# EAGLE library part IP175 (library ic-plus)
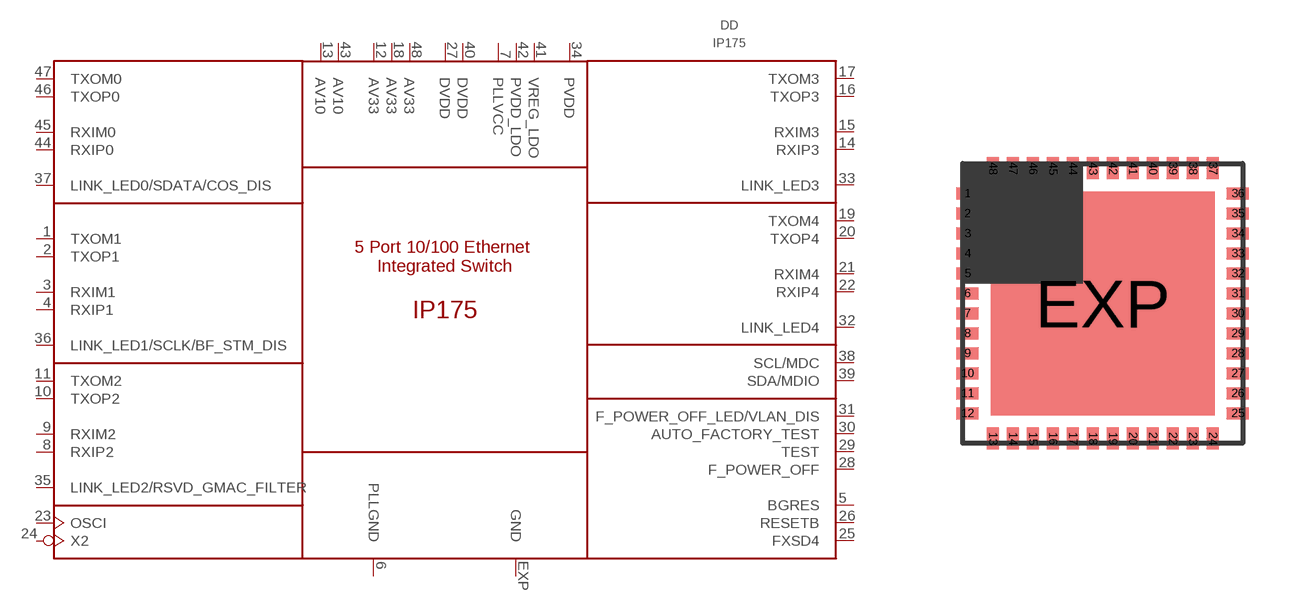
[diagram p0: symbol with the pads of QFN48; footprint QFN48]

Designator prefix DD

## IP175  [QFN48]
1  TXOM1  out
2  TXOP1  out
3  RXIM1  in
4  RXIP1  in
5  BGRES  pas
6  PLLGND  pwr
7  PLLVCC  pwr
8  RXIP2  in
9  RXIM2  in
10  TXOP2  out
11  TXOM2  out
12  AV33  pwr
13  AV10  pwr
14  RXIP3  in
15  RXIM3  in
16  TXOP3  out
17  TXOM3  out
18  AV33  pwr
19  TXOM4  out
20  TXOP4  out
21  RXIM4  in
22  RXIP4  in
23  OSCI  in
24  X2  in
25  FXSD4  in
26  RESETB  in
27  DVDD  pwr
28  F_POWER_OFF  in
29  TEST  in
30  AUTO_FACTORY_TEST  in
31  F_POWER_OFF_LED/VLAN_DIS  in
32  LINK_LED4  out
33  LINK_LED3  out
34  PVDD  pwr
35  LINK_LED2/RSVD_GMAC_FILTER  out
36  LINK_LED1/SCLK/BF_STM_DIS  out
37  LINK_LED0/SDATA/COS_DIS  out
38  SCL/MDC  out
39  SDA/MDIO  out
40  DVDD  pwr
41  VREG_LDO  pwr
42  PVDD_LDO  pwr
43  AV10  pwr
44  RXIP0  in
45  RXIM0  in
46  TXOP0  out
47  TXOM0  out
48  AV33  pwr
EXP  GND  pwr

## Footprint QFN48 (pad centres in mm)
UFQFPN48 7 x 7 mm, 48-pin ultra thin 0.5 mm pitch quad flat no-lead package
smd 0.55 x 0.3: 1 -3.38,2.75; 2 -3.38,2.25; 3 -3.38,1.75; 4 -3.38,1.25; 5 -3.38,0.75; 6 -3.38,0.25; 7 -3.38,-0.25; 8 -3.38,-0.75; 9 -3.38,-1.25; 10 -3.38,-1.75; 11 -3.38,-2.25; 12 -3.38,-2.75; 25 3.38,-2.75; 26 3.38,-2.25; 27 3.38,-1.75; 28 3.38,-1.25; 29 3.38,-0.75; 30 3.38,-0.25; 31 3.38,0.25; 32 3.38,0.75; 33 3.38,1.25; 34 3.38,1.75; 35 3.38,2.25; 36 3.38,2.75
smd 0.3 x 0.55: 13 -2.75,-3.38; 14 -2.25,-3.38; 15 -1.75,-3.38; 16 -1.25,-3.38; 17 -0.75,-3.38; 18 -0.25,-3.38; 19 0.25,-3.38; 20 0.75,-3.38; 21 1.25,-3.38; 22 1.75,-3.38; 23 2.25,-3.38; 24 2.75,-3.38; 37 2.75,3.38; 38 2.25,3.38; 39 1.75,3.38; 40 1.25,3.38; 41 0.75,3.38; 42 0.25,3.38; 43 -0.25,3.38; 44 -0.75,3.38; 45 -1.25,3.38; 46 -1.75,3.38; 47 -2.25,3.38; 48 -2.75,3.38
smd 5.6 x 5.6: EXP 0,0